# Altium schematic symbol library SCH - POWER - SWITCHMODE - TI TPS61040_DRV_6.SchLib: 1 symbol
Pins are listed as number, name and electrical type; pins without a type are passive.

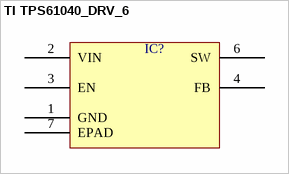
[diagram p0: symbol TI TPS61040_DRV_6]

## TI TPS61040_DRV_6
designator IC?  (value not drawn)
pins: 1 GND, 2 VIN, 3 EN, 4 FB, 6 SW, 7 EPAD